# Altium footprint library ACM2012.PcbLib: 1 footprints
Each footprint in its own frame and in the unit in brackets; x right, y up, seen from the top. Pads: shape width x height; smd on the part's side, far side on the other; paste and mask are expansions set on the pad; w line width, h text height; cw(c..) or ccw(c..) is an arc to the next point about the centre after c.
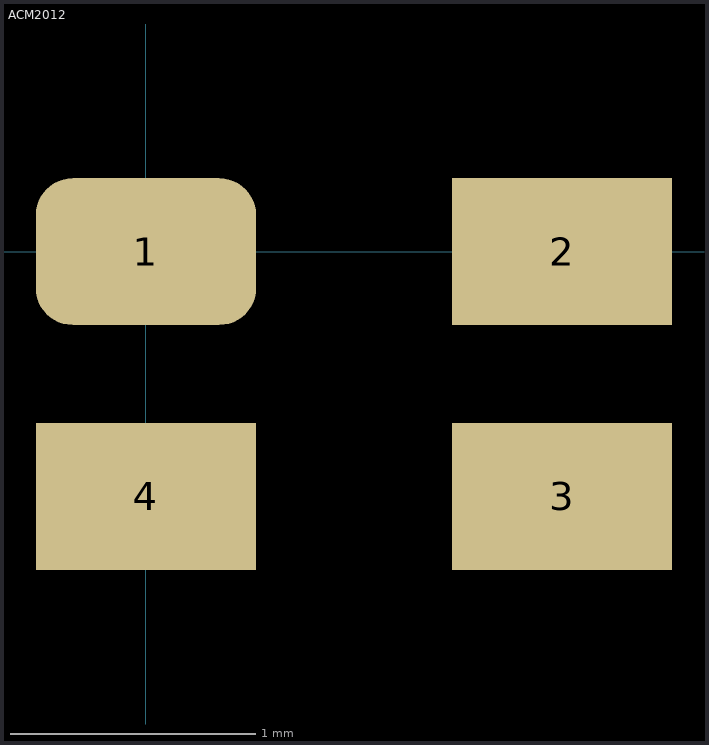
[diagram p0: the footprint, top view; thin cyan lines are the x and y axes]

## ACM2012 [mm]
pads (4):
  rrect50% 0.9x0.6 smd: 1(0,0)
  rect 0.9x0.6 smd: 2(1.7,0) 3(1.7,-1) 4(0,-1)
3D body "ACM2012-2P.STEP": height 1.29, standoff -0.01, extent -0.2,-1.1 1.8,0.1